# Altium integrated library BM08B-NSHSS-TBT.IntLib: 1 symbol
Pins are listed as number, name and electrical type; pins without a type are passive.

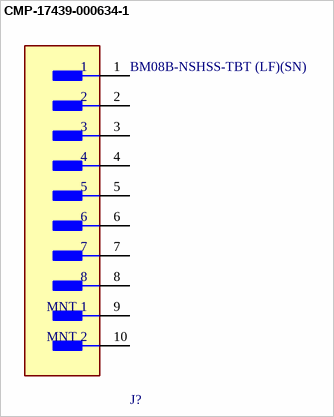
[diagram p0: symbol CMP-17439-000634-1]

## CMP-17439-000634-1
designator J?, comment BM08B-NSHSS-TBT (LF)(SN)
CONN HEADER SMD 8POS 1MM; Mated Stacking Heights: 7.8mm; Pitch: 0.039inch; Number of Positions: 8; Voltage Rating: 50V; Number of Rows: 1; Insulation Material: Nylon; Connector Type: Header; Contact Type: Male Pin; Contact Finish - Mating: TIN; Min Operating Temperature: -25°C; Packaging: Cut Tape; Contact Plating: Tin; Flammability Rating: UL94 V-0; Package Quantity: 1; Contact Material: Copper Alloy; Fastening Type: Latch; Color: Natural; Series: NSH; Termination: Solder; Insulation Color: Natural; Max Operating Temperature: 85°C; Mount: Surface Mount
footprint FP-BM08B-NSHSS-TBT_LF_S-MFG
pins: 1, 2, 3, 4, 5, 6, 7, 8, 9 MNT 1, 10 MNT 2